# EAGLE library part ST7735-1.8TFT-MOD (library yb-library)
1.8" TFT-Modul (ST7735) mit SD-Card-Slot (China-Import)
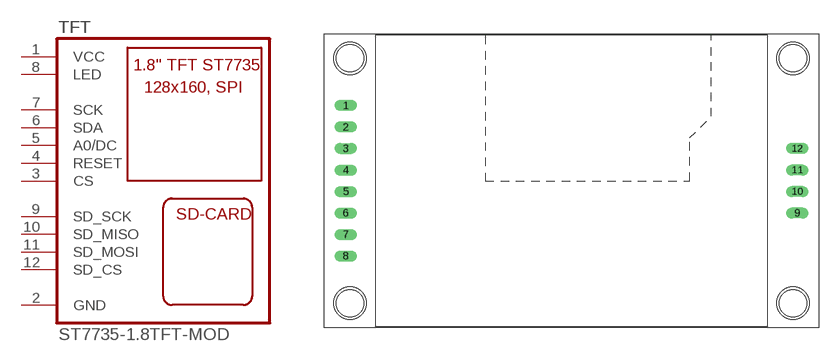
[diagram p9: symbol with the pads of ST7735-1.8TFT-MOD; footprint ST7735-1.8TFT-MOD]

Designator prefix TFT

## ST7735-1.8TFT-MOD  [ST7735-1.8TFT-MOD]
1  VCC  pwr
2  GND  pwr
3  CS  in
4  RESET  in
5  A0/DC  in
6  SDA  in
7  SCK  in
8  LED  in
9  SD_SCK  in
10  SD_MISO  out
11  SD_MOSI  in
12  SD_CS  in

## Footprint ST7735-1.8TFT-MOD (pad centres in mm)
drill 0.813 long: 1 -26.67,8.89; 2 -26.67,6.35; 3 -26.67,3.81; 4 -26.67,1.27; 5 -26.67,-1.27; 6 -26.67,-3.81; 7 -26.67,-6.35; 8 -26.67,-8.89; 9 26.67,-3.81; 10 26.67,-1.27; 11 26.67,1.27; 12 26.67,3.81
hole 3.2 at -26.162,-14.478
hole 3.2 at -26.162,14.478
hole 3.2 at 26.162,-14.478
hole 3.2 at 26.162,14.478